# EAGLE library part NRF24L01-BRKOUT (library nrf24l01-breakout)
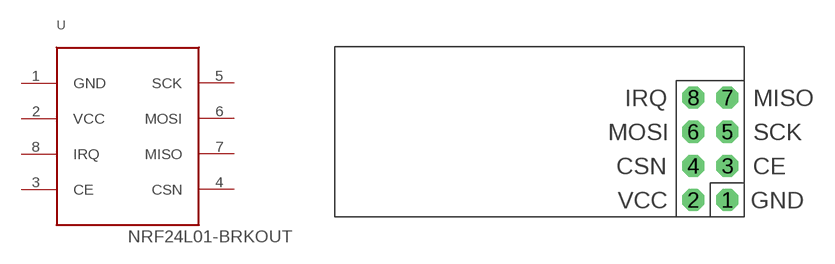
[diagram p0: symbol with the pads of NRF24L01-BKKOUT; footprint NRF24L01-BKKOUT]

Designator prefix -

## NRF24L01-BRKOUT  [NRF24L01-BKKOUT]
1  GND
2  VCC
3  CE
4  CSN
5  SCK
6  MOSI
7  MISO
8  IRQ

## Footprint NRF24L01-BKKOUT (pad centres in mm)
drill 1.1 octagon: 1 1.27,-3.81; 2 -1.27,-3.81; 3 1.27,-1.27; 4 -1.27,-1.27; 5 1.27,1.27; 6 -1.27,1.27; 7 1.27,3.81; 8 -1.27,3.81